# Altium schematic symbol library MIC_PDM.SchLib: 1 symbol
Pins are listed as number, name and electrical type; pins without a type are passive.

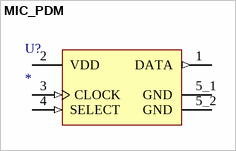
[diagram p0: symbol MIC_PDM]

## MIC_PDM
designator U?
Value: *
pins: 1 DATA (out), 2 VDD (power), 3 CLOCK (in), 4 SELECT (in), 5_1 GND (power), 5_2 GND (power)